# EAGLE library part 74099-09 (library con-molex-c-grid)
C-Grid SL
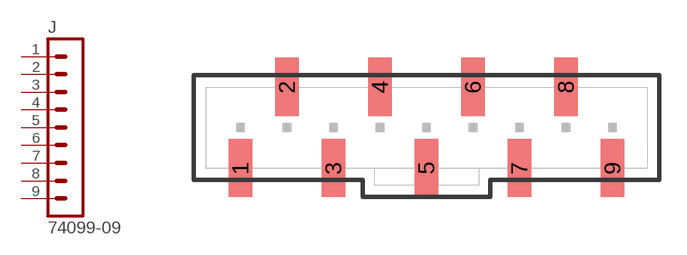
[diagram p43: symbol with the pads of 74099-09; footprint 74099-09]

Designator prefix J

## 74099-09  [74099-09]
1  1  pas
2  2  pas
3  3  pas
4  4  pas
5  5  pas
6  6  pas
7  7  pas
8  8  pas
9  9  pas

## Footprint 74099-09 (pad centres in mm)
C-Grid SL vertical, SMD
smd 1.27 x 3.175: 1 -10.16,-2.223; 2 -7.62,2.223; 3 -5.08,-2.223; 4 -2.54,2.223; 5 0,-2.223; 6 2.54,2.223; 7 5.08,-2.223; 8 7.62,2.223; 9 10.16,-2.223